# Altium integrated library Microcontrollers Library.IntLib: 9 symbols
Pins are listed as number, name and electrical type; pins without a type are passive.

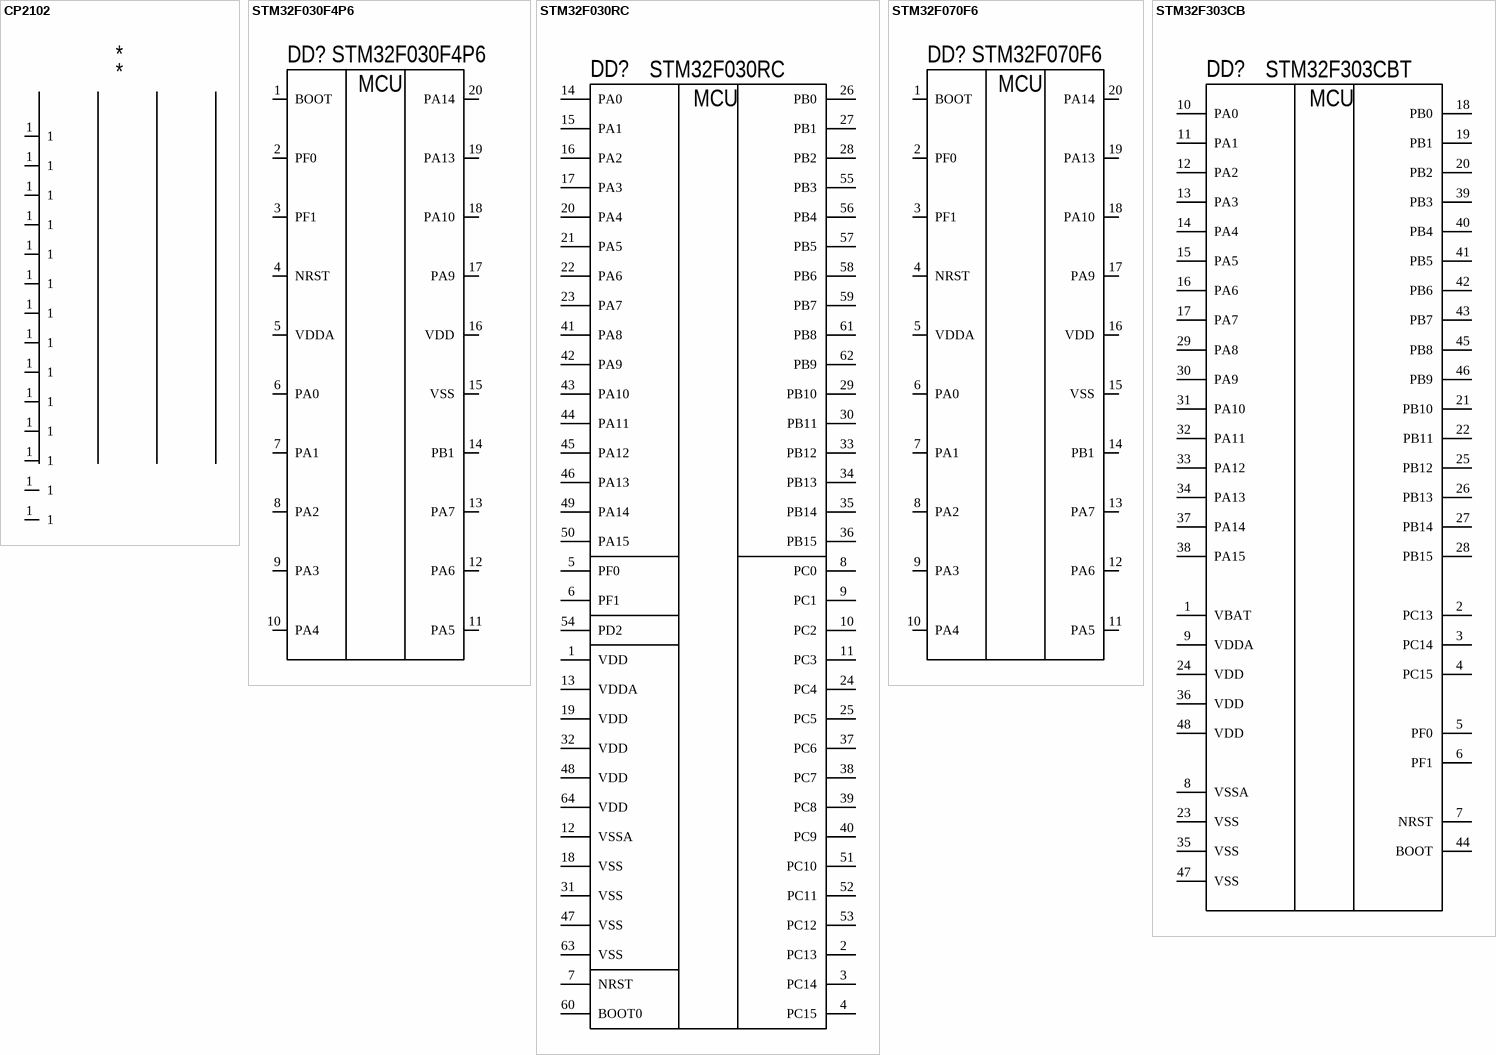
[diagram p0: symbols CP2102 to STM32F303CB]

## CP2102
designator *
pins: 1, 1, 1, 1, 1, 1, 1, 1, 1, 1, 1, 1, 1, 1

## STM32F030F4P6
designator DD?  Name: STM32F030F4P6  (hidden comment: *)
Manufacturer: STMicroelectronics; Flash memory size: 16Kb; RAM memory size: 4Kb; ComponentLink1Description: STM32F030; ComponentLink1URL: https://www.st.com/resource/en/datasheet/stm32f030f4.pdf; Case: TSSOP-20; PartNumber: STM32F030F4P6; Temperature range: - 40 to 85 °C
footprint TSSOP-20
pins: 1 BOOT, 2 PF0, 3 PF1, 4 NRST, 5 VDDA, 6 PA0, 7 PA1, 8 PA2, 9 PA3, 10 PA4, 11 PA5, 12 PA6, 13 PA7, 14 PB1, 15 VSS, 16 VDD, 17 PA9, 18 PA10, 19 PA13, 20 PA14
text: MCU

## STM32F030RC
designator DD?  Name: STM32F030RC  (hidden comment: *)
Arm 32-bit Cortex-M0 microcontroller (FlashROM: 256 kB, RAM: 32kB, Case: LQFP64); PartNumber: STM32F303RCT; Manufacturer: STMicroelectronics; Flash memory size: 256Kb; ComponentLink1Description: STM32F030; ComponentLink1URL: C:\Altium Libraries\Microcontrollers Library\DataSheet\STM32F030.pdf; Case: LQFP64; RAM memory size: 32Kb; Temperature range: –40 to 85 °C
footprint LQFP64
pins: 1 VDD, 2 PC13, 3 PC14, 4 PC15, 5 PF0, 6 PF1, 7 NRST, 8 PC0, 9 PC1, 10 PC2, 11 PC3, 12 VSSA, 13 VDDA, 14 PA0, 15 PA1, 16 PA2, 17 PA3, 18 VSS, 19 VDD, 20 PA4, 21 PA5, 22 PA6, 23 PA7, 24 PC4, 25 PC5, 26 PB0, 27 PB1, 28 PB2, 29 PB10, 30 PB11, 31 VSS, 32 VDD, 33 PB12, 34 PB13, 35 PB14, 36 PB15, 37 PC6, 38 PC7, 39 PC8, 40 PC9, 41 PA8, 42 PA9, 43 PA10, 44 PA11, 45 PA12, 46 PA13, 47 VSS, 48 VDD, 49 PA14, 50 PA15, 51 PC10, 52 PC11, 53 PC12, 54 PD2, 55 PB3, 56 PB4, 57 PB5, 58 PB6, 59 PB7, 60 BOOT0, 61 PB8, 62 PB9, 63 VSS, 64 VDD
text: MCU

## STM32F070F6
designator DD?  Name: STM32F070F6  (hidden comment: *)
Manufacturer: STMicroelectronics; PartNumber: STM32F070F6T6; Flash memory size: 32Kb; RAM memory size: 6Kb; ComponentLink1Description: STM32F030; ComponentLink1URL: https://www.st.com/resource/en/datasheet/stm32f030f4.pdf; Case: TSSOP-20; Temperature range: - 40 to 85 °C
footprint TSSOP-20
pins: 1 BOOT, 2 PF0, 3 PF1, 4 NRST, 5 VDDA, 6 PA0, 7 PA1, 8 PA2, 9 PA3, 10 PA4, 11 PA5, 12 PA6, 13 PA7, 14 PB1, 15 VSS, 16 VDD, 17 PA9, 18 PA10, 19 PA13, 20 PA14
text: MCU

## STM32F303CB
designator DD?  Name: STM32F303CBT  (hidden comment: *)
PartNumber: STM32F303CBT6TR; Manufacturer: STMicroelectronics; Flash memory size: 128Kb; RAM memory size: 32Kb; ComponentLink1Description: STM32; ComponentLink1URL: https://www.st.com/resource/en/datasheet/stm32f303vc.pdf; Case: LQFP48; Temperature range: –40 to 85 °C
footprint LQFP48
pins: 1 VBAT, 2 PC13, 3 PC14, 4 PC15, 5 PF0, 6 PF1, 7 NRST, 8 VSSA, 9 VDDA, 10 PA0, 11 PA1, 12 PA2, 13 PA3, 14 PA4, 15 PA5, 16 PA6, 17 PA7, 18 PB0, 19 PB1, 20 PB2, 21 PB10, 22 PB11, 23 VSS, 24 VDD, 25 PB12, 26 PB13, 27 PB14, 28 PB15, 29 PA8, 30 PA9, 31 PA10, 32 PA11, 33 PA12, 34 PA13, 35 VSS, 36 VDD, 37 PA14, 38 PA15, 39 PB3, 40 PB4, 41 PB5, 42 PB6, 43 PB7, 44 BOOT, 45 PB8, 46 PB9, 47 VSS, 48 VDD
text: MCU

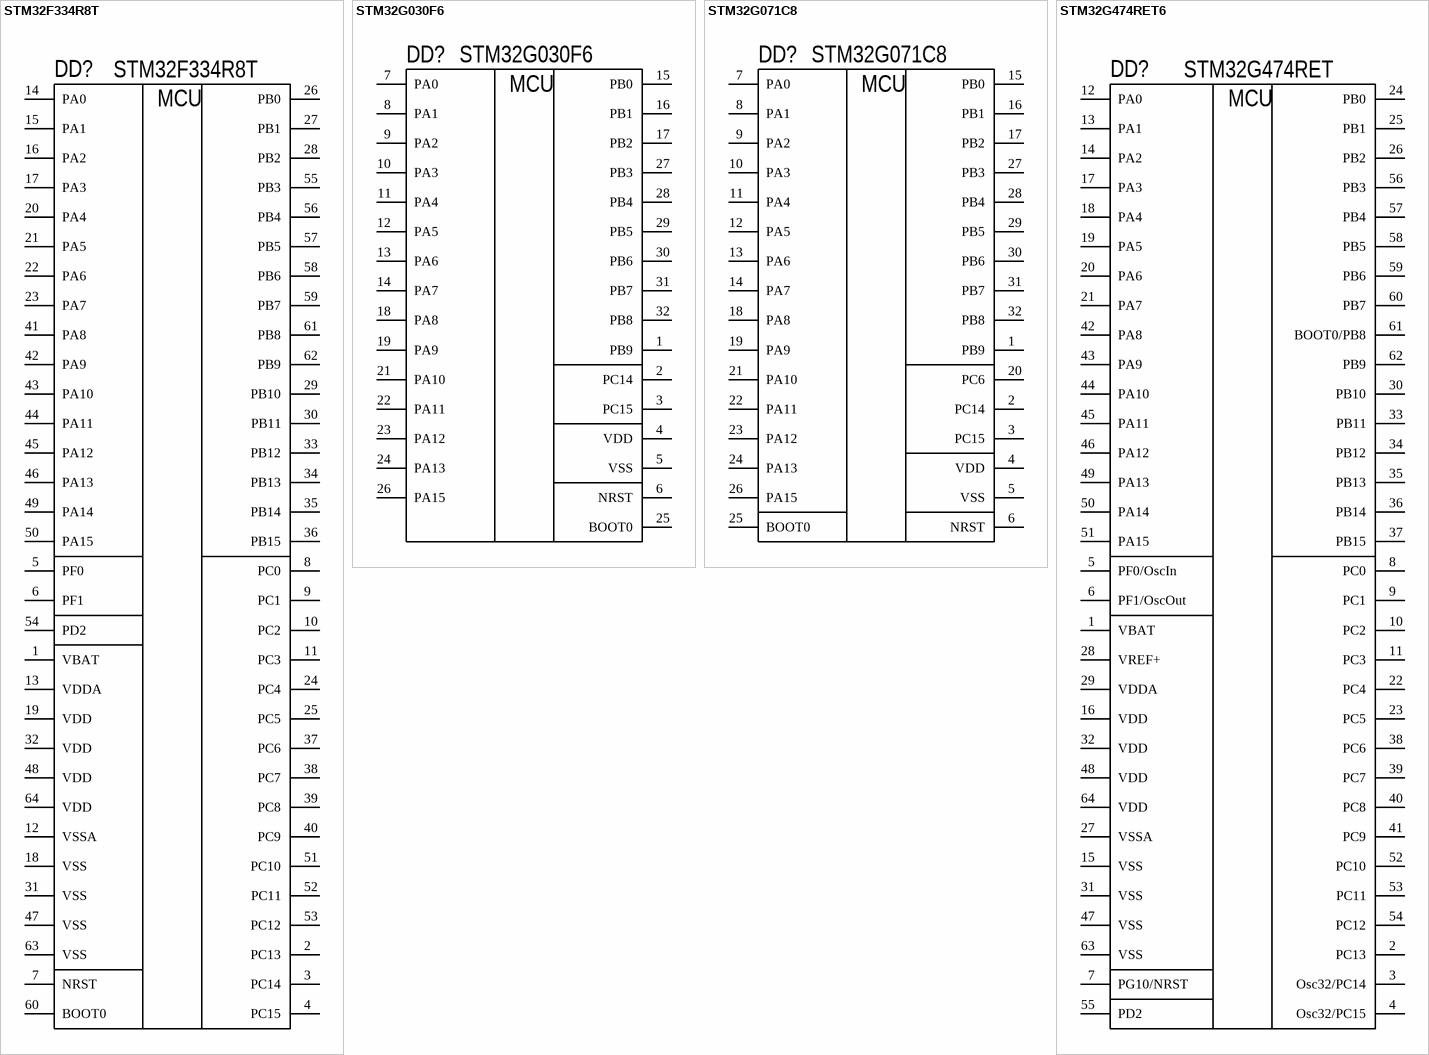
[diagram p1: symbols STM32F334R8T to STM32G474RET6]

## STM32F334R8T
designator DD?  Name: STM32F334R8T  (hidden comment: *)
Arm 32-bit Cortex-M4 microcontroller (FlashROM: 64 kB, RAM: 16kB, Case: LQFP64); PartNumber: STM32F303RCT; Manufacturer: STMicroelectronics; Flash memory size: 256Kb; RAM memory size: 32Kb; ComponentLink1Description: STM32F334R8T7; ComponentLink1URL: C:\Altium Libraries\Microcontrollers Library\DataSheet\STM32F334.pdf; Case: LQFP64; Temperature range: –40 to 105 °C
footprint LQFP64
pins: 1 VBAT, 2 PC13, 3 PC14, 4 PC15, 5 PF0, 6 PF1, 7 NRST, 8 PC0, 9 PC1, 10 PC2, 11 PC3, 12 VSSA, 13 VDDA, 14 PA0, 15 PA1, 16 PA2, 17 PA3, 18 VSS, 19 VDD, 20 PA4, 21 PA5, 22 PA6, 23 PA7, 24 PC4, 25 PC5, 26 PB0, 27 PB1, 28 PB2, 29 PB10, 30 PB11, 31 VSS, 32 VDD, 33 PB12, 34 PB13, 35 PB14, 36 PB15, 37 PC6, 38 PC7, 39 PC8, 40 PC9, 41 PA8, 42 PA9, 43 PA10, 44 PA11, 45 PA12, 46 PA13, 47 VSS, 48 VDD, 49 PA14, 50 PA15, 51 PC10, 52 PC11, 53 PC12, 54 PD2, 55 PB3, 56 PB4, 57 PB5, 58 PB6, 59 PB7, 60 BOOT0, 61 PB8, 62 PB9, 63 VSS, 64 VDD
text: MCU

## STM32G030F6
designator DD?  Name: STM32G030F6
Arm 32-bit Cortex-M0+ microcontroller (FlashROM: 64 kB, RAM: 8kB, Case: LQFP34); Manufacturer: STMicroelectronics; Flash memory size: 64Kb; Case: LQFP32; PartNumber: STM32G030F6; RAM memory size: 8Kb; Temperature range: - 40 to 85 °C; ComponentLink1Description: STM32G030F6; ComponentLink1URL: C:\Altium Libraries\Microcontrollers Library\DataSheet\STM32G030F6.pdf
footprint LQFP32
pins: 1 PB9, 2 PC14, 3 PC15, 4 VDD, 5 VSS, 6 NRST, 7 PA0, 8 PA1, 9 PA2, 10 PA3, 11 PA4, 12 PA5, 13 PA6, 14 PA7, 15 PB0, 16 PB1, 17 PB2, 18 PA8, 19 PA9, 21 PA10, 22 PA11, 23 PA12, 24 PA13, 25 BOOT0, 26 PA15, 27 PB3, 28 PB4, 29 PB5, 30 PB6, 31 PB7, 32 PB8
text: MCU

## STM32G071C8
designator DD?  Name: STM32G071C8
Arm 32-bit Cortex-M0+ microcontroller (FlashROM: 128 kB, RAM: 36 kB, Case: LQFP34); Manufacturer: STMicroelectronics; Flash memory size: 128Kb; RAM memory size: 36Kb; Case: LQFP32; PartNumber: STM32G071C8; Temperature range: - 40 to 85 °C; ComponentLink1Description: STM32G030F6; ComponentLink1URL: C:\Altium Libraries\Microcontrollers Library\DataSheet\STM32G071C8.pdf
footprint LQFP32
pins: 1 PB9, 2 PC14, 3 PC15, 4 VDD, 5 VSS, 6 NRST, 7 PA0, 8 PA1, 9 PA2, 10 PA3, 11 PA4, 12 PA5, 13 PA6, 14 PA7, 15 PB0, 16 PB1, 17 PB2, 18 PA8, 19 PA9, 20 PC6, 21 PA10, 22 PA11, 23 PA12, 24 PA13, 25 BOOT0, 26 PA15, 27 PB3, 28 PB4, 29 PB5, 30 PB6, 31 PB7, 32 PB8
text: MCU

## STM32G474RET6
designator DD?  Name: STM32G474RET  (hidden comment: *)
Arm 32-bit Cortex-M4 microcontroller (FlashROM: 512 kB, RAM: 128kB, Case: LQFP64); PartNumber: STM32G474RET6; Manufacturer: STMicroelectronics; Flash memory size: 512Kb; ComponentLink1Description: STM32F334R8T7; ComponentLink1URL: C:\Altium Libraries\Microcontrollers Library\DataSheet\STM32G474(STM).pdf; Case: LQFP64; RAM memory size: 128Kb; Temperature range: –40 to 85 °C
footprint LQFP64
pins: 1 VBAT, 2 PC13, 3 Osc32/PC14, 4 Osc32/PC15, 5 PF0/OscIn, 6 PF1/OscOut, 7 PG10/NRST, 8 PC0, 9 PC1, 10 PC2, 11 PC3, 12 PA0, 13 PA1, 14 PA2, 15 VSS, 16 VDD, 17 PA3, 18 PA4, 19 PA5, 20 PA6, 21 PA7, 22 PC4, 23 PC5, 24 PB0, 25 PB1, 26 PB2, 27 VSSA, 28 VREF+, 29 VDDA, 30 PB10, 31 VSS, 32 VDD, 33 PB11, 34 PB12, 35 PB13, 36 PB14, 37 PB15, 38 PC6, 39 PC7, 40 PC8, 41 PC9, 42 PA8, 43 PA9, 44 PA10, 45 PA11, 46 PA12, 47 VSS, 48 VDD, 49 PA13, 50 PA14, 51 PA15, 52 PC10, 53 PC11, 54 PC12, 55 PD2, 56 PB3, 57 PB4, 58 PB5, 59 PB6, 60 PB7, 61 BOOT0/PB8, 62 PB9, 63 VSS, 64 VDD
text: MCU